# EAGLE library part 62504422021 (library Wurth_Elektronik_Electromechanic_Wire_to_Board_Connectors_rev16a)
WR-BHD 2.00mm Male Box Header With Lever, 44 Pins=>Code : Con_WTB_BHD_2.00_Male_THT_62504422021 <http://katalog.we-online.de/media/thumbs2/eican/thb_Con_WTB_BHD_2.00_Male_THT_6250xx22021_pf2.jpg> Details see: http://katalog.we-online.de/en/em/625_0xx_220_21 Created 2014-06-05, Karrer Zheng 2014 (C) Würth Elektronik
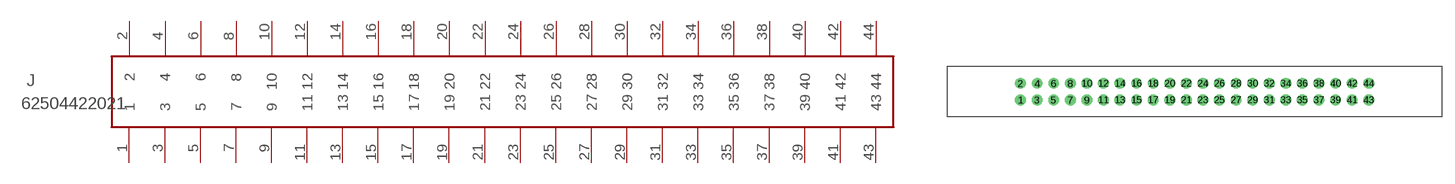
[diagram p257: symbol with the pads of 62504422021; footprint 62504422021]

Designator prefix J

## 62504422021  [62504422021]
1  1  pas
2  2  pas
3  3  pas
4  4  pas
5  5  pas
6  6  pas
7  7  pas
8  8  pas
9  9  pas
10  10  pas
11  11  pas
12  12  pas
13  13  pas
14  14  pas
15  15  pas
16  16  pas
17  17  pas
18  18  pas
19  19  pas
20  20  pas
21  21  pas
22  22  pas
23  23  pas
24  24  pas
25  25  pas
26  26  pas
27  27  pas
28  28  pas
29  29  pas
30  30  pas
31  31  pas
32  32  pas
33  33  pas
34  34  pas
35  35  pas
36  36  pas
37  37  pas
38  38  pas
39  39  pas
40  40  pas
41  41  pas
42  42  pas
43  43  pas
44  44  pas

## Footprint 62504422021 (pad centres in mm)
WR-BHD-2.00mm Male Box Header With Lever,44 pins
drill 0.8: 1 -19.35,-1; 2 -19.35,1; 3 -17.35,-1; 4 -17.35,1; 5 -15.35,-1; 6 -15.35,1; 7 -13.35,-1; 8 -13.35,1; 9 -11.35,-1; 10 -11.35,1; 11 -9.35,-1; 12 -9.35,1; 13 -7.35,-1; 14 -7.35,1; 15 -5.35,-1; 16 -5.35,1; 17 -3.35,-1; 18 -3.35,1; 19 -1.35,-1; 20 -1.35,1; 21 0.65,-1; 22 0.65,1; 23 2.65,-1; 24 2.65,1; 25 4.65,-1; 26 4.65,1; 27 6.65,-1; 28 6.65,1; 29 8.65,-1; 30 8.65,1; 31 10.65,-1; 32 10.65,1; 33 12.65,-1; 34 12.65,1; 35 14.65,-1; 36 14.65,1; 37 16.65,-1; 38 16.65,1; 39 18.65,-1; 40 18.65,1; 41 20.65,-1; 42 20.65,1; 43 22.65,-1; 44 22.65,1